# Altium footprint library TypeC_12pin_12402012E212A.PcbLib: 1 footprints
Each footprint in its own frame and in the unit in brackets; x right, y up, seen from the top. Pads: shape width x height; smd on the part's side, far side on the other; paste and mask are expansions set on the pad; w line width, h text height; cw(c..) or ccw(c..) is an arc to the next point about the centre after c.
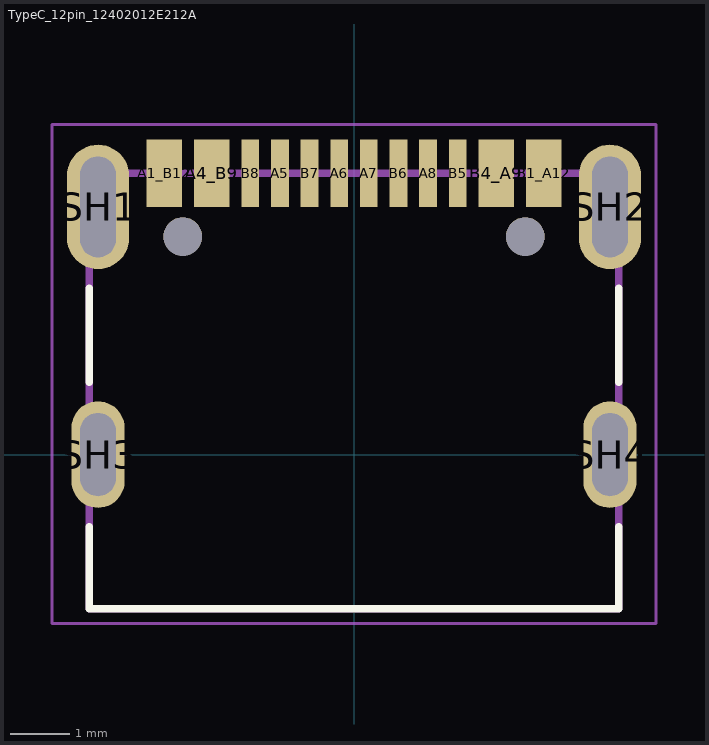
[diagram p0: the footprint, top view; thin cyan lines are the x and y axes]

## TypeC_12pin_12402012E212A [mm]
height 3.26
pads (18):
  rect 0.6x1.14 smd: A1_B12(-3.2,4.75) A4_B9(-2.4,4.75) B1_A12(3.2,4.75) B4_A9(2.4,4.75)
  rect 0.3x1.14 smd: A5(-1.25,4.75) A6(-0.25,4.75) A7(0.25,4.75) A8(1.25,4.75) B5(1.75,4.75) B6(0.75,4.75) B7(-0.75,4.75) B8(-1.75,4.75)
  oval 1.05x2.1 hole 0.6 slot 1.7 at 90 deg: SH1(-4.32,4.18) SH2(4.32,4.18)
  oval 0.9x1.8 hole 0.6 slot 1.4 at 90 deg: SH3(-4.32,0) SH4(4.32,0)
  round 0.65 hole 0.65 unplated: ""(-2.89,3.68) ""(2.89,3.68)
Top Overlay:
  lines w0.127: -4.47,-1.22 -4.47,-2.6 4.47,-2.6 4.47,-1.22 ; -4.47,1.22 -4.47,2.81 ; 4.47,1.22 4.47,2.81
Mechanical 13:
  lines w0.127: -4.47,-2.6 -4.47,4.75 4.47,4.75 4.47,-2.6 -4.47,-2.6
Mechanical 15:
  lines w0.05: -5.095,-2.85 5.095,-2.85 5.095,5.57 -5.095,5.57 -5.095,-2.85
3D body "step_temp.STEP": height 3.15, standoff -1.01, extent -4.47,-2.647 4.47,4.953